# Altium schematic symbol library Kilobot_Controller.SchLib: 14 symbols
Pins are listed as number, name and electrical type; pins without a type are passive.

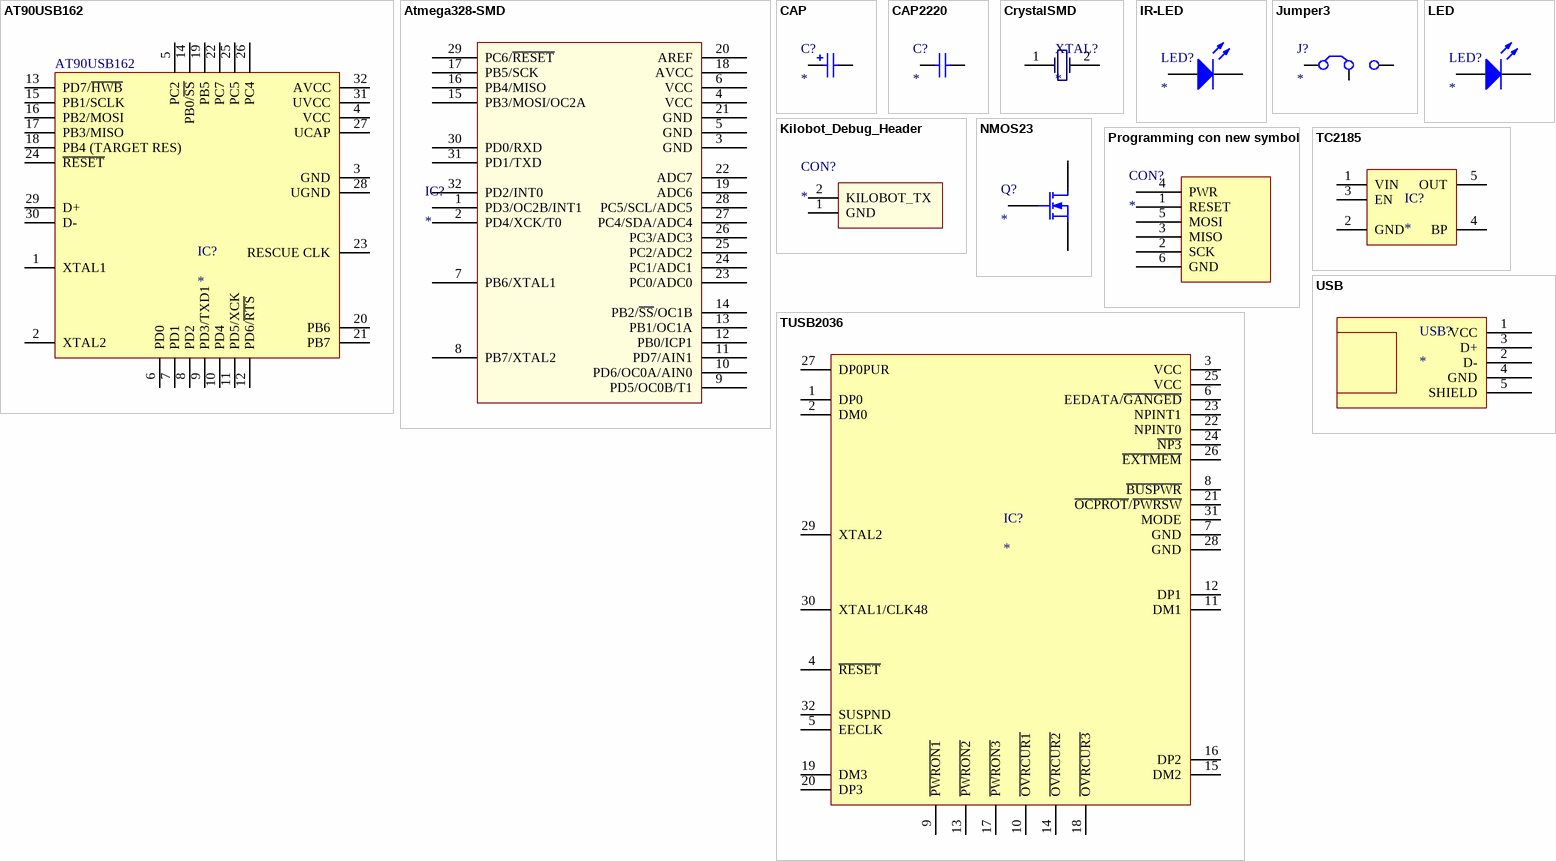
[diagram p0: symbols AT90USB162 to USB]

## AT90USB162
designator IC?  value AT90USB162
Order code: AT90USB162-16AU-ND
footprint TQFP32
pins: 1 XTAL1, 2 XTAL2, 3 GND, 4 VCC, 5 PC2, 6 PD0, 7 PD1, 8 PD2, 9 PD3/TXD1, 10 PD4, 11 PD5/XCK, 12 PD6/~{RTS}, 13 PD7/~{HWB}, 14 PB0/~{SS}, 15 PB1/SCLK, 16 PB2/MOSI, 17 PB3/MISO, 18 PB4 (TARGET RES), 19 PB5, 20 PB6, 21 PB7, 22 PC7, 23  RESCUE CLK, 24 ~{RESET}, 25 PC5, 26 PC4, 27 UCAP, 28 UGND, 29 D+, 30 D-, 31 UVCC, 32 AVCC

## Atmega328-SMD
designator IC?
Value: Atmega328
footprint TQFP32
pins: 1 PD3/OC2B/INT1, 2 PD4/XCK/T0, 3 GND, 4 VCC, 5 GND, 6 VCC, 7 PB6/XTAL1, 8 PB7/XTAL2, 9 PD5/OC0B/T1, 10 PD6/OC0A/AIN0, 11 PD7/AIN1, 12 PB0/ICP1, 13 PB1/OC1A, 14 PB2/~{SS}/OC1B, 15 PB3/MOSI/OC2A, 16 PB4/MISO, 17 PB5/SCK, 18 AVCC, 19 ADC6, 20 AREF, 21 GND, 22 ADC7, 23 PC0/ADC0, 24 PC1/ADC1, 25 PC2/ADC2, 26 PC3/ADC3, 27 PC4/SDA/ADC4, 28 PC5/SCL/ADC5, 29 PC6/~{RESET}, 30 PD0/RXD, 31 PD1/TXD, 32 PD2/INT0

## CAP
designator C?
Order code: *; Value: *
footprint cap (Footprint not found)
pins: 1, 2

## CAP2220
designator C?
Order code: *; Value: *
footprint C2220
pins: 1, 2

## CrystalSMD
designator XTAL?
Value: *; Order code: *
footprint CrystalSMD (Footprint not found)
pins: 1, 2

## IR-LED
designator LED?
Order code: *
footprint IR-LED
pins: 1 A, 2 K

## Jumper3
designator J?
Value: *; Order code: *
footprint HDR1X3 (Connector; Header; 3 Position)
pins: 1 C1, 2 C2, 3 C3

## Kilobot_Debug_Header
designator CON?
Value: *; Order code: *
footprint HDR1X2 (Footprint not found)
pins: 1 GND, 2 KILOBOT_TX

## LED
designator LED?
Value: Blue; Order code: *
footprint LED0603 (Footprint not found)
pins: 1 A, 2 K

## NMOS23
designator Q?
Value: *; Order code: *
footprint sot23-3
pins: 1 G, 2 S, 3 D

## Programming con new symbol
designator CON?
Value: Programming connector
footprint Programming (Footprint not found)
pins: 1 RESET, 2 SCK, 3 MISO, 4 PWR, 5 MOSI, 6 GND

## TC2185
designator IC?
Value: *; Order code: *
footprint SOT23-5
pins: 1 VIN, 2 GND, 3 EN, 4 BP, 5 OUT

## TUSB2036
designator IC?
Order code: 296-27129-1-ND; Value: TUSB2036
footprint TQFP32
pins: 1 DP0, 2 DM0, 3 VCC, 4 ~{RESET}, 5 EECLK, 6 EEDATA/~{GANGED}, 7 GND, 8 ~{BUSPWR}, 9 ~{PWRON1}, 10 ~{OVRCUR1}, 11 DM1, 12 DP1, 13 ~{PWRON2}, 14 ~{OVRCUR2}, 15 DM2, 16 DP2, 17 ~{PWRON3}, 18 ~{OVRCUR3}, 19 DM3, 20 DP3, 21 ~{OCPROT}/~{PWRSW}, 22 NPINT0, 23 NPINT1, 24 ~{NP3}, 25 VCC, 26 ~{EXTMEM}, 27 DP0PUR, 28 GND, 29 XTAL2, 30 XTAL1/CLK48, 31 MODE, 32 SUSPND

## USB
designator USB?
Value: USB; Order code: *
footprint USB_Vertical
pins: 1 VCC, 2 D-, 3 D+, 4 GND, 5 SHIELD